# EAGLE library part MAX166CCPP (library MAX166CCPP)
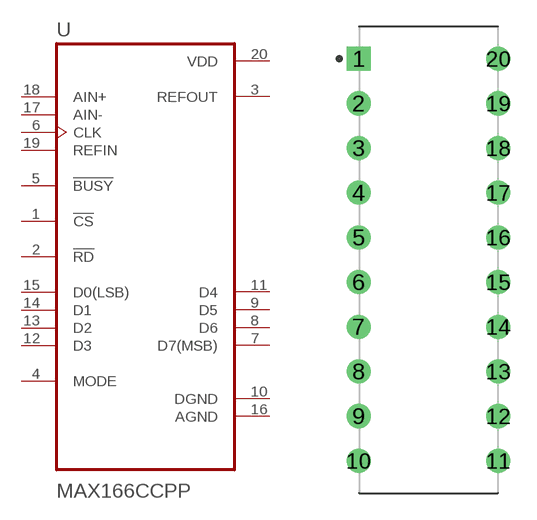
[diagram p0: symbol with the pads of DIP794W47P254L2654H457Q20; footprint DIP794W47P254L2654H457Q20]

Designator prefix U

## MAX166CCPP (Description: 8 Bit Analog to Digital Converter 1 Input 1 SAR 20-PDIP; Digi-Key_Part_Number: MAX166CCPP+-ND; Digi-Key_Purchase_URL: https://www.digikey.com/product-detail/en/maxim-integrated/MAX166CCPP-/MAX166CCPP--ND/1511997?utm_source=snapeda&utm_medium=aggregator&utm_campaign=symbol; MF: Maxim Integrated; MP: MAX166CCPP+; Package: PDIP-20 Maxim)  [DIP794W47P254L2654H457Q20]
1  !CS
2  !RD
3  REFOUT  out
4  MODE
5  !BUSY
6  CLK  in
7  D7(MSB)
8  D6
9  D5
10  DGND  pwr
11  D4
12  D3
13  D2
14  D1
15  D0(LSB)
16  AGND  pwr
17  AIN-  in
18  AIN+  in
19  REFIN  in
20  VDD  pwr

## Footprint DIP794W47P254L2654H457Q20 (pad centres in mm)
drill 0.86 pad 1.21 square: 1 -3.97,11.43
drill 0.86 pad 1.21: 2 -3.97,8.89; 3 -3.97,6.35; 4 -3.97,3.81; 5 -3.97,1.27; 6 -3.97,-1.27; 7 -3.97,-3.81; 8 -3.97,-6.35; 9 -3.97,-8.89; 10 -3.97,-11.43; 11 3.97,-11.43; 12 3.97,-8.89; 13 3.97,-6.35; 14 3.97,-3.81; 15 3.97,-1.27; 16 3.97,1.27; 17 3.97,3.81; 18 3.97,6.35; 19 3.97,8.89; 20 3.97,11.43